# Altium integrated library Linear Technology Charge_Pump.IntLib: 599 symbols (part 14 of 29)
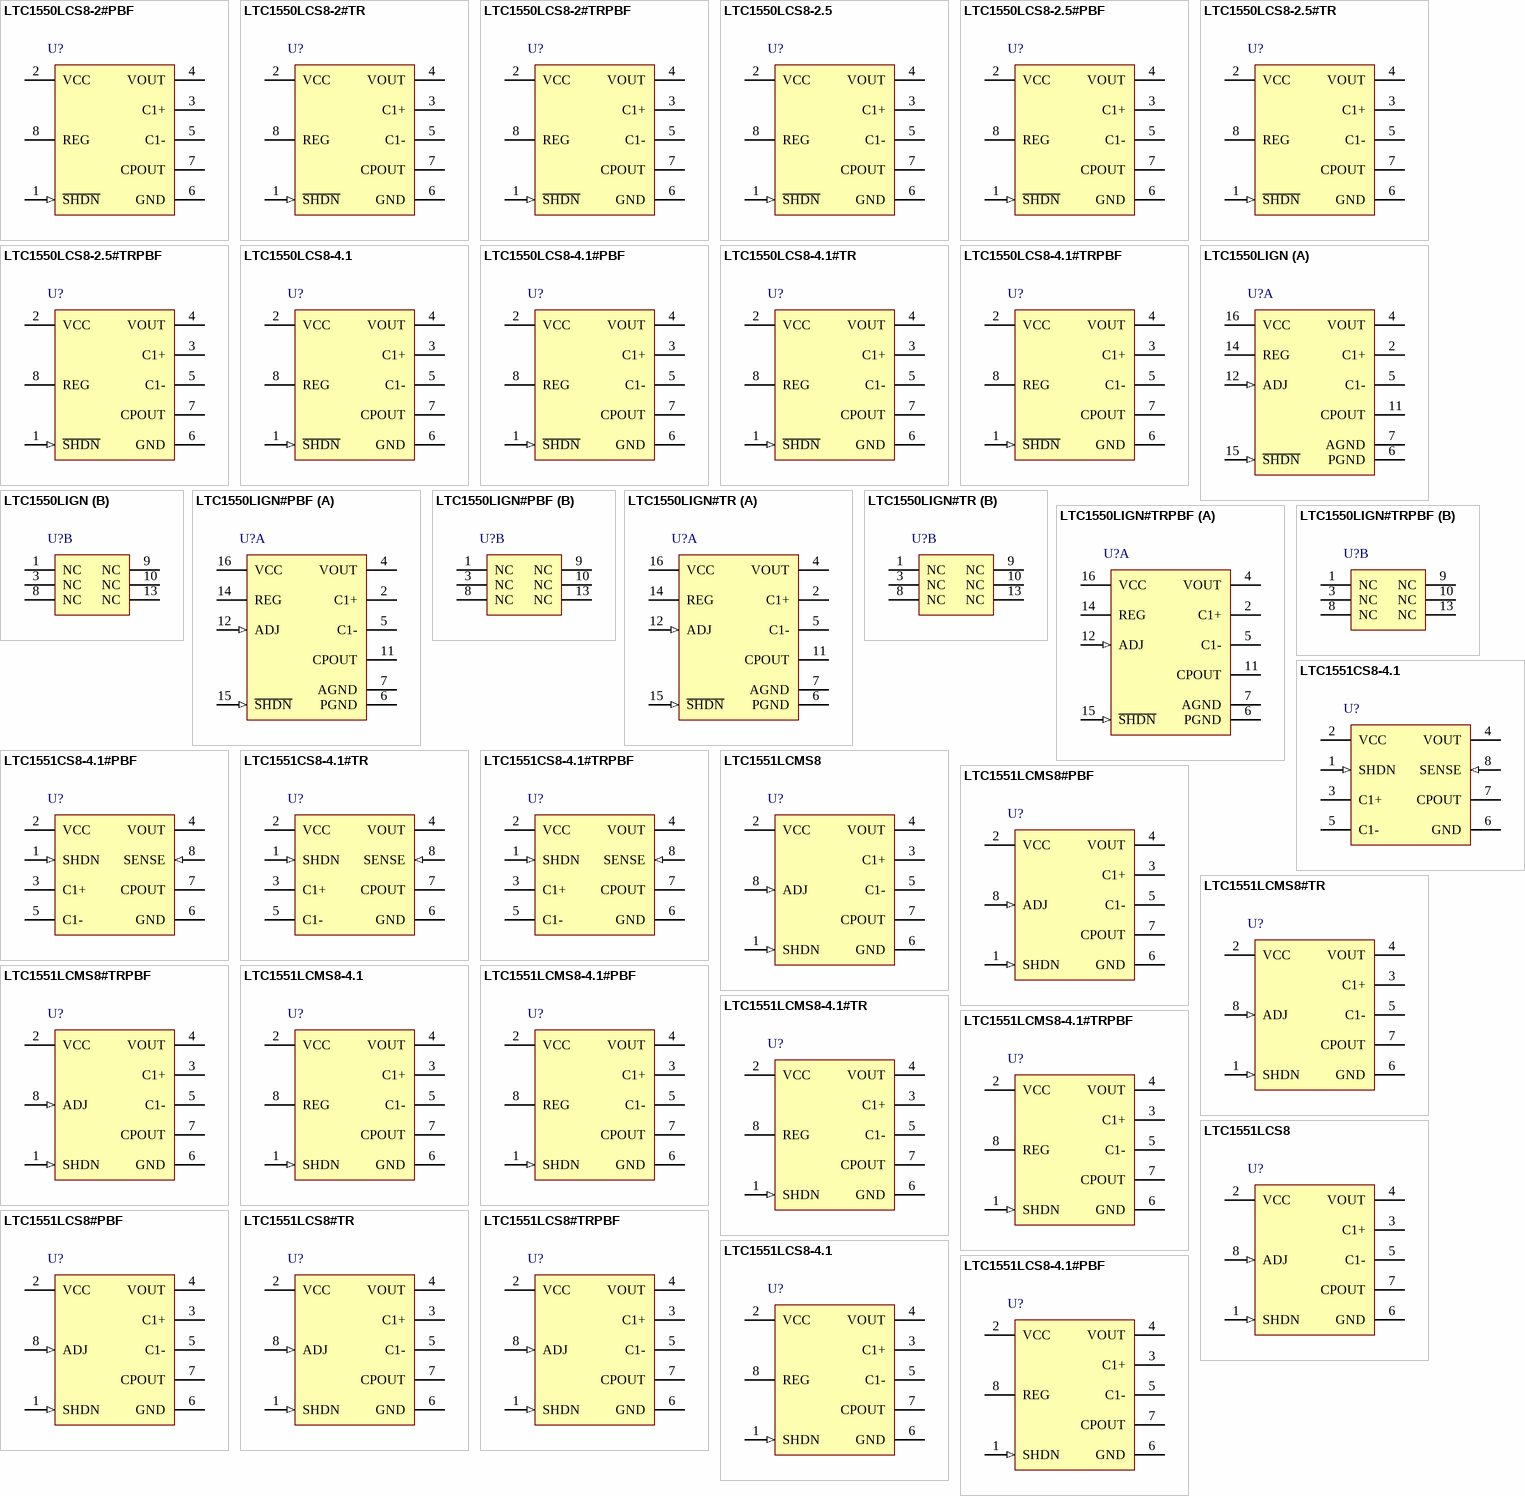
[diagram p29: symbols LTC1550LCS8-2#PBF to LTC1551LCS8-4.1#PBF]

## LTC1550LCS8-4.1#TR
designator U?
Low Noise, Switched Capacitor Regulated Voltage Inverter, 4.5 to 5.25 V Vin, -4.1 V Vout, 8-pin SOIC (S8-8), 0 to 70 degC, Tape and Reel; Manufacturer: Linear Technology; PartNumber: LTC1550LCS8-4.1#TR; Frequency(kHz): 900; Ishutdown(uA): 0.1; Isupply(mA): 3.65; Max Iout(mA): 20; Vin Max(V): 5.25; Vin Min(V): 4.5; Voutput: -4.1V; PackageVersion: Rev. G, 03/2012; PackageReference: S8-8; PackageDescription: 8-Pin Plastic Small Outline (Narrow .150 Inch), Body 4.9 x 3.9 mm, Pitch 1.27 mm; Supplier 1: Digi-Key; Supplier Part Number 1: LTC1550LCS8-4.1TR-ND; Packing: Tape and Reel; RoHS: FALSE; Mounting Technology: Surface Mount; ComponentLink1Description: Manufacturer URL; ComponentLink1URL: http://www.linear.com/; ComponentLink2Description: Datasheet; ComponentLink2URL: http://cds.linear.com/docs/en/datasheet/15501lf.pdf; ComponentLink3Description: Package Specification; ComponentLink3URL: http://cds.linear.com/docs/en/packaging/05081610_G_SO8.pdf
footprint LT-S8-8_N (SOIC, 8-Leads, Body 5x4mm, Pitch 1.27mm, IPC Medium Density)
footprint LT-S8-8_L (SOIC, 8-Leads, Body 5x4mm, Pitch 1.27mm, IPC High Density)
footprint LT-S8-8_M (SOIC, 8-Leads, Body 5x4mm, Pitch 1.27mm, IPC Low Density)
pins: 1 ~{SHDN} (in) "Shutdown (TTL Compatible). This pin is active low (S\H\D\N\) for the LTC1550L and active high (SHDN) for the LTC1551L. When this pin is at VCC (GND for LTC1551L), the LTC1550L operates normally. When S\H\D\N\ is pulled low (See Datasheet)", 2 VCC (power) "Power Supply. VCC requires an input voltage between 2.7V and 5.25V. Certain combinations of output voltage and output load current may place additional restrictions on the required input voltage. Consult the Electrical (See Datasheet)", 3 C1+ "C1 Positive Input. Connect a 0.1uF capacitor between C1+ and C1-.", 4 VOUT (power) "Negative Voltage Output. This pin must be bypassed with a 4.7uF or larger capacitor to ensure regulator loop stability. LTC recommends at least 10uFto achieve the specified output ripple. The output capacitor should be a (See Datasheet)", 5 C1- "C1 Negative Input. Connect a 0.1uF capacitor from C1+ to C1-.", 6 GND (power) "Ground. Connect to a low impedance ground. A ground plane will help minimize regulation errors.", 7 CPOUT "Negative Charge Pump Output. This pin requires a 0.1uF storage capacitor to ground. In order to achieve ripple on the output voltage of less than 1mV, the ground connection for the CPOUT capacitor must tie directly to the (See Datasheet)", 8 REG (oc) "This is an open-drain output that pulls low when the output voltage is within 5% of the set value. It will sink 4uA to ground with a 5V supply. The external circuitry must provide a pull-up or REG will not swing high. The (See Datasheet)"

## LTC1550LCS8-4.1#TRPBF
designator U?
Low Noise, Switched Capacitor Regulated Voltage Inverter, 4.5 to 5.25 V Vin, -4.1 V Vout, 8-pin SOIC (S8-8), 0 to 70 degC, Pb-Free, Tape and Reel; Manufacturer: Linear Technology; PartNumber: LTC1550LCS8-4.1#TRPBF; Frequency(kHz): 900; Ishutdown(uA): 0.1; Isupply(mA): 3.65; Max Iout(mA): 20; Vin Max(V): 5.25; Vin Min(V): 4.5; Voutput: -4.1V; PackageVersion: Rev. G, 03/2012; PackageReference: S8-8; PackageDescription: 8-Pin Plastic Small Outline (Narrow .150 Inch), Body 4.9 x 3.9 mm, Pitch 1.27 mm; Supplier 1: Digi-Key; Supplier Part Number 1: LTC1550LCS8-4.1#TRPBF-ND; Packing: Tape and Reel; RoHS: TRUE; Mounting Technology: Surface Mount; ComponentLink1Description: Manufacturer URL; ComponentLink1URL: http://www.linear.com/; ComponentLink2Description: Datasheet; ComponentLink2URL: http://cds.linear.com/docs/en/datasheet/15501lf.pdf; ComponentLink3Description: Package Specification; ComponentLink3URL: http://cds.linear.com/docs/en/packaging/05081610_G_SO8.pdf
footprint LT-S8-8_N (SOIC, 8-Leads, Body 5x4mm, Pitch 1.27mm, IPC Medium Density)
footprint LT-S8-8_L (SOIC, 8-Leads, Body 5x4mm, Pitch 1.27mm, IPC High Density)
footprint LT-S8-8_M (SOIC, 8-Leads, Body 5x4mm, Pitch 1.27mm, IPC Low Density)
pins: 1 ~{SHDN} (in) "Shutdown (TTL Compatible). This pin is active low (S\H\D\N\) for the LTC1550L and active high (SHDN) for the LTC1551L. When this pin is at VCC (GND for LTC1551L), the LTC1550L operates normally. When S\H\D\N\ is pulled low (See Datasheet)", 2 VCC (power) "Power Supply. VCC requires an input voltage between 2.7V and 5.25V. Certain combinations of output voltage and output load current may place additional restrictions on the required input voltage. Consult the Electrical (See Datasheet)", 3 C1+ "C1 Positive Input. Connect a 0.1uF capacitor between C1+ and C1-.", 4 VOUT (power) "Negative Voltage Output. This pin must be bypassed with a 4.7uF or larger capacitor to ensure regulator loop stability. LTC recommends at least 10uFto achieve the specified output ripple. The output capacitor should be a (See Datasheet)", 5 C1- "C1 Negative Input. Connect a 0.1uF capacitor from C1+ to C1-.", 6 GND (power) "Ground. Connect to a low impedance ground. A ground plane will help minimize regulation errors.", 7 CPOUT "Negative Charge Pump Output. This pin requires a 0.1uF storage capacitor to ground. In order to achieve ripple on the output voltage of less than 1mV, the ground connection for the CPOUT capacitor must tie directly to the (See Datasheet)", 8 REG (oc) "This is an open-drain output that pulls low when the output voltage is within 5% of the set value. It will sink 4uA to ground with a 5V supply. The external circuitry must provide a pull-up or REG will not swing high. The (See Datasheet)"

## LTC1550LIGN
designator U?
Low Noise, Switched Capacitor Regulated Voltage Inverter, 2.7 to 5.25 V Vin, Adjustable Vout, 16-pin SOP (GN-16), -40 to 85 degC; Manufacturer: Linear Technology; PartNumber: LTC1550LIGN; Frequency(kHz): 900; Ishutdown(uA): 0.1; Isupply(mA): 3.65; Max Iout(mA): 20; Vin Max(V): 5.25; Vin Min(V): 2.7; Voutput: Adj; PackageVersion: Rev. B, 03/2012; PackageReference: GN-16; PackageDescription: 16-Pin Plastic SSOP, Body 4.9 x 3.9 mm, Pitch 0.635 mm; Supplier 1: Digi-Key; Supplier Part Number 1: LTC1550LIGN-ND; Supplier 2: Newark; Supplier Part Number 2: 56M2008; RoHS: FALSE; Mounting Technology: Surface Mount; ComponentLink1Description: Manufacturer URL; ComponentLink1URL: http://www.linear.com/; ComponentLink2Description: Datasheet; ComponentLink2URL: http://cds.linear.com/docs/en/datasheet/15501lf.pdf; ComponentLink3Description: Package Specification; ComponentLink3URL: http://cds.linear.com/docs/en/packaging/05081641_B_GN16.pdf
footprint LT-GN-16_N (SOP, 16-Leads, Body 5x4mm, Pitch 0.635mm, IPC Medium Density)
footprint LT-GN-16_L (SOP, 16-Leads, Body 5x4mm, Pitch 0.635mm, IPC High Density)
footprint LT-GN-16_M (SOP, 16-Leads, Body 5x4mm, Pitch 0.635mm, IPC Low Density)
part A pins: 2 C1+ "C1 Positive Input. Connect a 0.1uF capacitor between C1+ and C1-.", 4 VOUT (power) "Negative Voltage Output. This pin must be bypassed with a 4.7uF or larger capacitor to ensure regulator loop stability. LTC recommends at least 10uF to achieve the specified output ripple. The output capacitor should be a (See Datasheet)", 5 C1- "C1 Negative Input. Connect a 0.1uF capacitor from C1+ to C1-.", 6 PGND (power) "Power Ground. Connect to a low impedance ground. PGND should be connected to the same potential as AGND.", 7 AGND (power) "Analog Ground. Connect to a low impedance ground. AGND should be connected to a ground plane to minimize regulation errors.", 11 CPOUT "Negative Charge Pump Output. This pin requires a 0.1uF storage capacitor to ground. In order to achieve ripple on the output voltage of less than 1mV, the ground connection for the CPOUT capacitor must tie directly to the (See Datasheet)", 12 ADJ (in) "This is the feedback point for the external resistor divider string. Connect a divider string from GND to VOUT with the divided tap connected to ADJ. Note that the resistor string needs to be connected “upside-down” f(See Datasheet)", 14 REG (oc) "This is an open-drain output that pulls low when the output voltage is within 5% of the set value. It will sink 4mA to ground with a 5V supply. The external circuitry must provide a pull-up or REG will not swing high. The (See Datasheet)", 15 ~{SHDN} (in) "Shutdown (TTL Compatible). This pin is active low (S\H\D\N\) for the LTC1550L and active high (SHDN) for the LTC1551L. When this pin is at VCC (GND for LTC1551L), the LTC1550L operates normally. When S\H\D\N\ is pulled low (See Datasheet)", 16 VCC (power) "Power Supply. VCC requires an input voltage between 2.7V and 5.25V. Certain combinations of output voltage and output load current may place additional restrictions on the required input voltage. Consult the Electrical (See Datasheet)"
part B pins: 1 NC "No Internal Connection.", 3 NC "No Internal Connection.", 8 NC "No Internal Connection.", 9 NC "No Internal Connection.", 10 NC "No Internal Connection.", 13 NC "No Internal Connection."

## LTC1550LIGN#PBF
designator U?
Low Noise, Switched Capacitor Regulated Voltage Inverter, 2.7 to 5.25 V Vin, Adjustable Vout, 16-pin SOP (GN-16), -40 to 85 degC, Pb-Free; Manufacturer: Linear Technology; PartNumber: LTC1550LIGN#PBF; Frequency(kHz): 900; Ishutdown(uA): 0.1; Isupply(mA): 3.65; Max Iout(mA): 20; Vin Max(V): 5.25; Vin Min(V): 2.7; Voutput: Adj; PackageVersion: Rev. B, 03/2012; PackageReference: GN-16; PackageDescription: 16-Pin Plastic SSOP, Body 4.9 x 3.9 mm, Pitch 0.635 mm; Supplier 1: Digi-Key; Supplier Part Number 1: LTC1550LIGN#PBF-ND; RoHS: TRUE; Mounting Technology: Surface Mount; ComponentLink1Description: Manufacturer URL; ComponentLink1URL: http://www.linear.com/; ComponentLink2Description: Datasheet; ComponentLink2URL: http://cds.linear.com/docs/en/datasheet/15501lf.pdf; ComponentLink3Description: Package Specification; ComponentLink3URL: http://cds.linear.com/docs/en/packaging/05081641_B_GN16.pdf
footprint LT-GN-16_N (SOP, 16-Leads, Body 5x4mm, Pitch 0.635mm, IPC Medium Density)
footprint LT-GN-16_L (SOP, 16-Leads, Body 5x4mm, Pitch 0.635mm, IPC High Density)
footprint LT-GN-16_M (SOP, 16-Leads, Body 5x4mm, Pitch 0.635mm, IPC Low Density)
part A pins: 2 C1+ "C1 Positive Input. Connect a 0.1uF capacitor between C1+ and C1-.", 4 VOUT (power) "Negative Voltage Output. This pin must be bypassed with a 4.7uF or larger capacitor to ensure regulator loop stability. LTC recommends at least 10uF to achieve the specified output ripple. The output capacitor should be a (See Datasheet)", 5 C1- "C1 Negative Input. Connect a 0.1uF capacitor from C1+ to C1-.", 6 PGND (power) "Power Ground. Connect to a low impedance ground. PGND should be connected to the same potential as AGND.", 7 AGND (power) "Analog Ground. Connect to a low impedance ground. AGND should be connected to a ground plane to minimize regulation errors.", 11 CPOUT "Negative Charge Pump Output. This pin requires a 0.1uF storage capacitor to ground. In order to achieve ripple on the output voltage of less than 1mV, the ground connection for the CPOUT capacitor must tie directly to the (See Datasheet)", 12 ADJ (in) "This is the feedback point for the external resistor divider string. Connect a divider string from GND to VOUT with the divided tap connected to ADJ. Note that the resistor string needs to be connected “upside-down” f(See Datasheet)", 14 REG (oc) "This is an open-drain output that pulls low when the output voltage is within 5% of the set value. It will sink 4mA to ground with a 5V supply. The external circuitry must provide a pull-up or REG will not swing high. The (See Datasheet)", 15 ~{SHDN} (in) "Shutdown (TTL Compatible). This pin is active low (S\H\D\N\) for the LTC1550L and active high (SHDN) for the LTC1551L. When this pin is at VCC (GND for LTC1551L), the LTC1550L operates normally. When S\H\D\N\ is pulled low (See Datasheet)", 16 VCC (power) "Power Supply. VCC requires an input voltage between 2.7V and 5.25V. Certain combinations of output voltage and output load current may place additional restrictions on the required input voltage. Consult the Electrical (See Datasheet)"
part B pins: 1 NC "No Internal Connection.", 3 NC "No Internal Connection.", 8 NC "No Internal Connection.", 9 NC "No Internal Connection.", 10 NC "No Internal Connection.", 13 NC "No Internal Connection."

## LTC1550LIGN#TR
designator U?
Low Noise, Switched Capacitor Regulated Voltage Inverter, 2.7 to 5.25 V Vin, Adjustable Vout, 16-pin SOP (GN-16), -40 to 85 degC, Tape and Reel; Manufacturer: Linear Technology; PartNumber: LTC1550LIGN#TR; Frequency(kHz): 900; Ishutdown(uA): 0.1; Isupply(mA): 3.65; Max Iout(mA): 20; Vin Max(V): 5.25; Vin Min(V): 2.7; Voutput: Adj; PackageVersion: Rev. B, 03/2012; PackageReference: GN-16; PackageDescription: 16-Pin Plastic SSOP, Body 4.9 x 3.9 mm, Pitch 0.635 mm; Supplier 1: Digi-Key; Supplier Part Number 1: LTC1550LIGN#TR-ND; Packing: Tape and Reel; RoHS: FALSE; Mounting Technology: Surface Mount; ComponentLink1Description: Manufacturer URL; ComponentLink1URL: http://www.linear.com/; ComponentLink2Description: Datasheet; ComponentLink2URL: http://cds.linear.com/docs/en/datasheet/15501lf.pdf; ComponentLink3Description: Package Specification; ComponentLink3URL: http://cds.linear.com/docs/en/packaging/05081641_B_GN16.pdf
footprint LT-GN-16_N (SOP, 16-Leads, Body 5x4mm, Pitch 0.635mm, IPC Medium Density)
footprint LT-GN-16_L (SOP, 16-Leads, Body 5x4mm, Pitch 0.635mm, IPC High Density)
footprint LT-GN-16_M (SOP, 16-Leads, Body 5x4mm, Pitch 0.635mm, IPC Low Density)
part A pins: 2 C1+ "C1 Positive Input. Connect a 0.1uF capacitor between C1+ and C1-.", 4 VOUT (power) "Negative Voltage Output. This pin must be bypassed with a 4.7uF or larger capacitor to ensure regulator loop stability. LTC recommends at least 10uF to achieve the specified output ripple. The output capacitor should be a (See Datasheet)", 5 C1- "C1 Negative Input. Connect a 0.1uF capacitor from C1+ to C1-.", 6 PGND (power) "Power Ground. Connect to a low impedance ground. PGND should be connected to the same potential as AGND.", 7 AGND (power) "Analog Ground. Connect to a low impedance ground. AGND should be connected to a ground plane to minimize regulation errors.", 11 CPOUT "Negative Charge Pump Output. This pin requires a 0.1uF storage capacitor to ground. In order to achieve ripple on the output voltage of less than 1mV, the ground connection for the CPOUT capacitor must tie directly to the (See Datasheet)", 12 ADJ (in) "This is the feedback point for the external resistor divider string. Connect a divider string from GND to VOUT with the divided tap connected to ADJ. Note that the resistor string needs to be connected “upside-down” f(See Datasheet)", 14 REG (oc) "This is an open-drain output that pulls low when the output voltage is within 5% of the set value. It will sink 4mA to ground with a 5V supply. The external circuitry must provide a pull-up or REG will not swing high. The (See Datasheet)", 15 ~{SHDN} (in) "Shutdown (TTL Compatible). This pin is active low (S\H\D\N\) for the LTC1550L and active high (SHDN) for the LTC1551L. When this pin is at VCC (GND for LTC1551L), the LTC1550L operates normally. When S\H\D\N\ is pulled low (See Datasheet)", 16 VCC (power) "Power Supply. VCC requires an input voltage between 2.7V and 5.25V. Certain combinations of output voltage and output load current may place additional restrictions on the required input voltage. Consult the Electrical (See Datasheet)"
part B pins: 1 NC "No Internal Connection.", 3 NC "No Internal Connection.", 8 NC "No Internal Connection.", 9 NC "No Internal Connection.", 10 NC "No Internal Connection.", 13 NC "No Internal Connection."

## LTC1550LIGN#TRPBF
designator U?
Low Noise, Switched Capacitor Regulated Voltage Inverter, 2.7 to 5.25 V Vin, Adjustable Vout, 16-pin SOP (GN-16), -40 to 85 degC, Pb-Free, Tape and Reel; Manufacturer: Linear Technology; PartNumber: LTC1550LIGN#TRPBF; Frequency(kHz): 900; Ishutdown(uA): 0.1; Isupply(mA): 3.65; Max Iout(mA): 20; Vin Max(V): 5.25; Vin Min(V): 2.7; Voutput: Adj; PackageVersion: Rev. B, 03/2012; PackageReference: GN-16; PackageDescription: 16-Pin Plastic SSOP, Body 4.9 x 3.9 mm, Pitch 0.635 mm; Supplier 1: Digi-Key; Supplier Part Number 1: LTC1550LIGN#TRPBF-ND; Packing: Tape and Reel; RoHS: TRUE; Mounting Technology: Surface Mount; ComponentLink1Description: Manufacturer URL; ComponentLink1URL: http://www.linear.com/; ComponentLink2Description: Datasheet; ComponentLink2URL: http://cds.linear.com/docs/en/datasheet/15501lf.pdf; ComponentLink3Description: Package Specification; ComponentLink3URL: http://cds.linear.com/docs/en/packaging/05081641_B_GN16.pdf
footprint LT-GN-16_N (SOP, 16-Leads, Body 5x4mm, Pitch 0.635mm, IPC Medium Density)
footprint LT-GN-16_L (SOP, 16-Leads, Body 5x4mm, Pitch 0.635mm, IPC High Density)
footprint LT-GN-16_M (SOP, 16-Leads, Body 5x4mm, Pitch 0.635mm, IPC Low Density)
part A pins: 2 C1+ "C1 Positive Input. Connect a 0.1uF capacitor between C1+ and C1-.", 4 VOUT (power) "Negative Voltage Output. This pin must be bypassed with a 4.7uF or larger capacitor to ensure regulator loop stability. LTC recommends at least 10uF to achieve the specified output ripple. The output capacitor should be a (See Datasheet)", 5 C1- "C1 Negative Input. Connect a 0.1uF capacitor from C1+ to C1-.", 6 PGND (power) "Power Ground. Connect to a low impedance ground. PGND should be connected to the same potential as AGND.", 7 AGND (power) "Analog Ground. Connect to a low impedance ground. AGND should be connected to a ground plane to minimize regulation errors.", 11 CPOUT "Negative Charge Pump Output. This pin requires a 0.1uF storage capacitor to ground. In order to achieve ripple on the output voltage of less than 1mV, the ground connection for the CPOUT capacitor must tie directly to the (See Datasheet)", 12 ADJ (in) "This is the feedback point for the external resistor divider string. Connect a divider string from GND to VOUT with the divided tap connected to ADJ. Note that the resistor string needs to be connected “upside-down” f(See Datasheet)", 14 REG (oc) "This is an open-drain output that pulls low when the output voltage is within 5% of the set value. It will sink 4mA to ground with a 5V supply. The external circuitry must provide a pull-up or REG will not swing high. The (See Datasheet)", 15 ~{SHDN} (in) "Shutdown (TTL Compatible). This pin is active low (S\H\D\N\) for the LTC1550L and active high (SHDN) for the LTC1551L. When this pin is at VCC (GND for LTC1551L), the LTC1550L operates normally. When S\H\D\N\ is pulled low (See Datasheet)", 16 VCC (power) "Power Supply. VCC requires an input voltage between 2.7V and 5.25V. Certain combinations of output voltage and output load current may place additional restrictions on the required input voltage. Consult the Electrical (See Datasheet)"
part B pins: 1 NC "No Internal Connection.", 3 NC "No Internal Connection.", 8 NC "No Internal Connection.", 9 NC "No Internal Connection.", 10 NC "No Internal Connection.", 13 NC "No Internal Connection."

## LTC1551CS8-4.1
designator U?
Low Noise, Switched Capacitor Regulated Voltage Inverter, 4.5 to 6.5 V Vin, -4.1 V Vout, 8-pin SOIC (S8-8), 0 to 70 degC; Manufacturer: Linear Technology; PartNumber: LTC1551CS8-4.1; Frequency(kHz): 900; Ishutdown(uA): 0.1; Isupply(mA): 4.25; Max Iout(mA): 20; Vin Max(V): 6.5; Vin Min(V): 4.5; Voutput: -4.1V; DatasheetVersion: Rev. A; PackageVersion: Rev. G, 03/2012; PackageReference: S8-8; PackageDescription: 8-Pin Plastic Small Outline (Narrow .150 Inch), Body 4.9 x 3.9 mm, Pitch 1.27 mm; Supplier 1: Digi-Key; Supplier Part Number 1: LTC1551CS8-4.1-ND; RoHS: FALSE; Mounting Technology: Surface Mount; ComponentLink1Description: Manufacturer URL; ComponentLink1URL: http://www.linear.com/; ComponentLink2Description: Datasheet; ComponentLink2URL: http://cds.linear.com/docs/en/datasheet/15501fa.pdf; ComponentLink3Description: Package Specification; ComponentLink3URL: http://cds.linear.com/docs/en/packaging/05081610_G_SO8.pdf
footprint LT-S8-8_N (SOIC, 8-Leads, Body 5x4mm, Pitch 1.27mm, IPC Medium Density)
footprint LT-S8-8_L (SOIC, 8-Leads, Body 5x4mm, Pitch 1.27mm, IPC High Density)
footprint LT-S8-8_M (SOIC, 8-Leads, Body 5x4mm, Pitch 1.27mm, IPC Low Density)
pins: 1 SHDN (in) "Shutdown (TTL Compatible). This pin is active low (S\H\D\N\) for the LTC1550 and active high (SHDN) for the LTC1551. When this pin is at VCC (GND for LTC1551), the LTC1550 operates normally. When S\H\D\N\ is pulled low (SHDN (See Datasheet)", 2 VCC (power) "Power Supply. VCC requires an input voltage between   4.5V and 6.5V for the fixed voltage LTC1550CS8-4.1/ LTC1551CS8-4.1. The adjustable voltage LTC1550CGN/LTC1550IGN operates with a VCC range of 2.7V to 6.5V.   Output (See Datasheet)", 3 C1+ "C1 Positive Input. Connect a 0.1uF capacitor between C1+ and C1-.", 4 VOUT (power) "Negative Voltage Output. This pin must be bypassed with a 4.7uF or larger capacitor to ensure regulator loop stability. LTC recommends at least 10uF to achieve the specified output ripple. The output capacitor should be a (See Datasheet)", 5 C1- "C1 Negative Input. Connect a 0.1uF capacitor from C1+ to C1-.", 6 GND (power) "Ground. Connect to a low impedance ground. A ground plane will help minimize regulation errors.", 7 CPOUT "Negative Charge Pump Output. This pin requires a 0.1uF storage capacitor to ground. In order to achieve ripple on the output voltage of less than 1mV, the ground connection for the CPOUT capacitor must tie directly to the (See Datasheet)", 8 SENSE (in) "Connect to VOUT. The LTC1550/LTC1551 internal regulator uses this pin to sense the output voltage. For optimum regulation, SENSE should be connected close to the output load"

## LTC1551CS8-4.1#PBF
designator U?
Low Noise, Switched Capacitor Regulated Voltage Inverter, 4.5 to 6.5 V Vin, -4.1 V Vout, 8-pin SOIC (S8-8), 0 to 70 degC, Pb-Free; Manufacturer: Linear Technology; PartNumber: LTC1551CS8-4.1#PBF; Frequency(kHz): 900; Ishutdown(uA): 0.1; Isupply(mA): 4.25; Max Iout(mA): 20; Vin Max(V): 6.5; Vin Min(V): 4.5; Voutput: -4.1V; DatasheetVersion: Rev. A; PackageVersion: Rev. G, 03/2012; PackageReference: S8-8; PackageDescription: 8-Pin Plastic Small Outline (Narrow .150 Inch), Body 4.9 x 3.9 mm, Pitch 1.27 mm; Supplier 1: Digi-Key; Supplier Part Number 1: LTC1551CS8-4.1#PBF-ND; Supplier 2: Newark; Supplier Part Number 2: 56M2013; RoHS: TRUE; Mounting Technology: Surface Mount; ComponentLink1Description: Manufacturer URL; ComponentLink1URL: http://www.linear.com/; ComponentLink2Description: Datasheet; ComponentLink2URL: http://cds.linear.com/docs/en/datasheet/15501fa.pdf; ComponentLink3Description: Package Specification; ComponentLink3URL: http://cds.linear.com/docs/en/packaging/05081610_G_SO8.pdf
footprint LT-S8-8_N (SOIC, 8-Leads, Body 5x4mm, Pitch 1.27mm, IPC Medium Density)
footprint LT-S8-8_L (SOIC, 8-Leads, Body 5x4mm, Pitch 1.27mm, IPC High Density)
footprint LT-S8-8_M (SOIC, 8-Leads, Body 5x4mm, Pitch 1.27mm, IPC Low Density)
pins: 1 SHDN (in) "Shutdown (TTL Compatible). This pin is active low (S\H\D\N\) for the LTC1550 and active high (SHDN) for the LTC1551. When this pin is at VCC (GND for LTC1551), the LTC1550 operates normally. When S\H\D\N\ is pulled low (SHDN (See Datasheet)", 2 VCC (power) "Power Supply. VCC requires an input voltage between   4.5V and 6.5V for the fixed voltage LTC1550CS8-4.1/ LTC1551CS8-4.1. The adjustable voltage LTC1550CGN/LTC1550IGN operates with a VCC range of 2.7V to 6.5V.   Output (See Datasheet)", 3 C1+ "C1 Positive Input. Connect a 0.1uF capacitor between C1+ and C1-.", 4 VOUT (power) "Negative Voltage Output. This pin must be bypassed with a 4.7uF or larger capacitor to ensure regulator loop stability. LTC recommends at least 10uF to achieve the specified output ripple. The output capacitor should be a (See Datasheet)", 5 C1- "C1 Negative Input. Connect a 0.1uF capacitor from C1+ to C1-.", 6 GND (power) "Ground. Connect to a low impedance ground. A ground plane will help minimize regulation errors.", 7 CPOUT "Negative Charge Pump Output. This pin requires a 0.1uF storage capacitor to ground. In order to achieve ripple on the output voltage of less than 1mV, the ground connection for the CPOUT capacitor must tie directly to the (See Datasheet)", 8 SENSE (in) "Connect to VOUT. The LTC1550/LTC1551 internal regulator uses this pin to sense the output voltage. For optimum regulation, SENSE should be connected close to the output load"

## LTC1551CS8-4.1#TR
designator U?
Low Noise, Switched Capacitor Regulated Voltage Inverter, 4.5 to 6.5 V Vin, -4.1 V Vout, 8-pin SOIC (S8-8), 0 to 70 degC, Tape and Reel; Manufacturer: Linear Technology; PartNumber: LTC1551CS8-4.1#TR; Frequency(kHz): 900; Ishutdown(uA): 0.1; Isupply(mA): 4.25; Max Iout(mA): 20; Vin Max(V): 6.5; Vin Min(V): 4.5; Voutput: -4.1V; DatasheetVersion: Rev. A; PackageVersion: Rev. G, 03/2012; PackageReference: S8-8; PackageDescription: 8-Pin Plastic Small Outline (Narrow .150 Inch), Body 4.9 x 3.9 mm, Pitch 1.27 mm; Supplier 1: Digi-Key; Supplier Part Number 1: LTC1551CS8-4.1#TR-ND; Packing: Tape and Reel; RoHS: FALSE; Mounting Technology: Surface Mount; ComponentLink1Description: Manufacturer URL; ComponentLink1URL: http://www.linear.com/; ComponentLink2Description: Datasheet; ComponentLink2URL: http://cds.linear.com/docs/en/datasheet/15501fa.pdf; ComponentLink3Description: Package Specification; ComponentLink3URL: http://cds.linear.com/docs/en/packaging/05081610_G_SO8.pdf
footprint LT-S8-8_N (SOIC, 8-Leads, Body 5x4mm, Pitch 1.27mm, IPC Medium Density)
footprint LT-S8-8_L (SOIC, 8-Leads, Body 5x4mm, Pitch 1.27mm, IPC High Density)
footprint LT-S8-8_M (SOIC, 8-Leads, Body 5x4mm, Pitch 1.27mm, IPC Low Density)
pins: 1 SHDN (in) "Shutdown (TTL Compatible). This pin is active low (S\H\D\N\) for the LTC1550 and active high (SHDN) for the LTC1551. When this pin is at VCC (GND for LTC1551), the LTC1550 operates normally. When S\H\D\N\ is pulled low (SHDN (See Datasheet)", 2 VCC (power) "Power Supply. VCC requires an input voltage between   4.5V and 6.5V for the fixed voltage LTC1550CS8-4.1/ LTC1551CS8-4.1. The adjustable voltage LTC1550CGN/LTC1550IGN operates with a VCC range of 2.7V to 6.5V.   Output (See Datasheet)", 3 C1+ "C1 Positive Input. Connect a 0.1uF capacitor between C1+ and C1-.", 4 VOUT (power) "Negative Voltage Output. This pin must be bypassed with a 4.7uF or larger capacitor to ensure regulator loop stability. LTC recommends at least 10uF to achieve the specified output ripple. The output capacitor should be a (See Datasheet)", 5 C1- "C1 Negative Input. Connect a 0.1uF capacitor from C1+ to C1-.", 6 GND (power) "Ground. Connect to a low impedance ground. A ground plane will help minimize regulation errors.", 7 CPOUT "Negative Charge Pump Output. This pin requires a 0.1uF storage capacitor to ground. In order to achieve ripple on the output voltage of less than 1mV, the ground connection for the CPOUT capacitor must tie directly to the (See Datasheet)", 8 SENSE (in) "Connect to VOUT. The LTC1550/LTC1551 internal regulator uses this pin to sense the output voltage. For optimum regulation, SENSE should be connected close to the output load"

## LTC1551CS8-4.1#TRPBF
designator U?
Low Noise, Switched Capacitor Regulated Voltage Inverter, 4.5 to 6.5 V Vin, -4.1 V Vout, 8-pin SOIC (S8-8), 0 to 70 degC, Pb-Free, Tape and Reel; Manufacturer: Linear Technology; PartNumber: LTC1551CS8-4.1#TRPBF; Frequency(kHz): 900; Ishutdown(uA): 0.1; Isupply(mA): 4.25; Max Iout(mA): 20; Vin Max(V): 6.5; Vin Min(V): 4.5; Voutput: -4.1V; DatasheetVersion: Rev. A; PackageVersion: Rev. G, 03/2012; PackageReference: S8-8; PackageDescription: 8-Pin Plastic Small Outline (Narrow .150 Inch), Body 4.9 x 3.9 mm, Pitch 1.27 mm; Supplier 1: Digi-Key; Supplier Part Number 1: LTC1551CS8-4.1#TRPBF-ND; Packing: Tape and Reel; RoHS: TRUE; Mounting Technology: Surface Mount; ComponentLink1Description: Manufacturer URL; ComponentLink1URL: http://www.linear.com/; ComponentLink2Description: Datasheet; ComponentLink2URL: http://cds.linear.com/docs/en/datasheet/15501fa.pdf; ComponentLink3Description: Package Specification; ComponentLink3URL: http://cds.linear.com/docs/en/packaging/05081610_G_SO8.pdf
footprint LT-S8-8_N (SOIC, 8-Leads, Body 5x4mm, Pitch 1.27mm, IPC Medium Density)
footprint LT-S8-8_L (SOIC, 8-Leads, Body 5x4mm, Pitch 1.27mm, IPC High Density)
footprint LT-S8-8_M (SOIC, 8-Leads, Body 5x4mm, Pitch 1.27mm, IPC Low Density)
pins: 1 SHDN (in) "Shutdown (TTL Compatible). This pin is active low (S\H\D\N\) for the LTC1550 and active high (SHDN) for the LTC1551. When this pin is at VCC (GND for LTC1551), the LTC1550 operates normally. When S\H\D\N\ is pulled low (SHDN (See Datasheet)", 2 VCC (power) "Power Supply. VCC requires an input voltage between   4.5V and 6.5V for the fixed voltage LTC1550CS8-4.1/ LTC1551CS8-4.1. The adjustable voltage LTC1550CGN/LTC1550IGN operates with a VCC range of 2.7V to 6.5V.   Output (See Datasheet)", 3 C1+ "C1 Positive Input. Connect a 0.1uF capacitor between C1+ and C1-.", 4 VOUT (power) "Negative Voltage Output. This pin must be bypassed with a 4.7uF or larger capacitor to ensure regulator loop stability. LTC recommends at least 10uF to achieve the specified output ripple. The output capacitor should be a (See Datasheet)", 5 C1- "C1 Negative Input. Connect a 0.1uF capacitor from C1+ to C1-.", 6 GND (power) "Ground. Connect to a low impedance ground. A ground plane will help minimize regulation errors.", 7 CPOUT "Negative Charge Pump Output. This pin requires a 0.1uF storage capacitor to ground. In order to achieve ripple on the output voltage of less than 1mV, the ground connection for the CPOUT capacitor must tie directly to the (See Datasheet)", 8 SENSE (in) "Connect to VOUT. The LTC1550/LTC1551 internal regulator uses this pin to sense the output voltage. For optimum regulation, SENSE should be connected close to the output load"

## LTC1551LCMS8
designator U?
Low Noise, Switched Capacitor Regulated Voltage Inverter, 2.7 to 5.25 V Vin, Adjustable Vout, 8-pin SOP (MS8-8), 0 to 70 degC; Manufacturer: Linear Technology; PartNumber: LTC1551LCMS8; Frequency(kHz): 900; Ishutdown(uA): 0.1; Isupply(mA): 3.65; Max Iout(mA): 20; Vin Max(V): 5.25; Vin Min(V): 2.7; Voutput: Adj; PackageVersion: Rev. G, 03/2012; PackageReference: MS8-8; PackageDescription: 8-Pin Plastic MSOP, Body 3 x 3 mm, Pitch 0.65 mm; Supplier 1: Digi-Key; Supplier Part Number 1: LTC1551LCMS8-ND; RoHS: FALSE; Mounting Technology: Surface Mount; ComponentLink1Description: Manufacturer URL; ComponentLink1URL: http://www.linear.com/; ComponentLink2Description: Datasheet; ComponentLink2URL: http://cds.linear.com/docs/en/datasheet/15501lf.pdf; ComponentLink3Description: Package Specification; ComponentLink3URL: http://cds.linear.com/docs/en/packaging/05081660_G_MS8.pdf
footprint LT-MS8-8_N (SOP, 8-Leads, Body 3.1x3.1mm, Pitch 0.65mm, IPC Medium Density)
footprint LT-MS8-8_L (SOP, 8-Leads, Body 3.1x3.1mm, Pitch 0.65mm, IPC High Density)
footprint LT-MS8-8_M (SOP, 8-Leads, Body 3.1x3.1mm, Pitch 0.65mm, IPC Low Density)
pins: 1 SHDN (in) "Shutdown (TTL Compatible). This pin is active low (S\H\D\N\) for the LTC1550L and active high (SHDN) for the LTC1551L. When this pin is at VCC (GND for LTC1551L), the LTC1550L operates normally. When S\H\D\N\ is pulled low (See Datasheet)", 2 VCC (power) "Power Supply. VCC requires an input voltage between 2.7V and 5.25V. Certain combinations of output voltage and output load current may place additional restrictions on the required input voltage. Consult the Electrical (See Datasheet)", 3 C1+ "C1 Positive Input. Connect a 0.1uF capacitor between C1+ and C1-.", 4 VOUT (power) "Negative Voltage Output. This pin must be bypassed with a 4.7uF or larger capacitor to ensure regulator loop stability. LTC recommends at least 10uFto achieve the specified output ripple. The output capacitor should be a (See Datasheet)", 5 C1- "C1 Negative Input. Connect a 0.1uF capacitor from C1+ to C1-.", 6 GND (power) "Ground. Connect to a low impedance ground. A ground plane will help minimize regulation errors.", 7 CPOUT "Negative Charge Pump Output. This pin requires a 0.1uF storage capacitor to ground. In order to achieve ripple on the output voltage of less than 1mV, the ground connection for the CPOUT capacitor must tie directly to the (See Datasheet)", 8 ADJ (in) "This is the feedback point for the external resistor divider string. Connect a divider string from GND to VOUT with the divided tap connected to ADJ. Note that the resistor string needs to be connected “upside-down” f(See Datasheet)"

## LTC1551LCMS8#PBF
designator U?
Low Noise, Switched Capacitor Regulated Voltage Inverter, 2.7 to 5.25 V Vin, Adjustable Vout, 8-pin SOP (MS8-8), 0 to 70 degC, Pb-Free; Manufacturer: Linear Technology; PartNumber: LTC1551LCMS8#PBF; Frequency(kHz): 900; Ishutdown(uA): 0.1; Isupply(mA): 3.65; Max Iout(mA): 20; Vin Max(V): 5.25; Vin Min(V): 2.7; Voutput: Adj; PackageVersion: Rev. G, 03/2012; PackageReference: MS8-8; PackageDescription: 8-Pin Plastic MSOP, Body 3 x 3 mm, Pitch 0.65 mm; Supplier 1: Digi-Key; Supplier Part Number 1: LTC1551LCMS8#PBF-ND; RoHS: TRUE; Mounting Technology: Surface Mount; ComponentLink1Description: Manufacturer URL; ComponentLink1URL: http://www.linear.com/; ComponentLink2Description: Datasheet; ComponentLink2URL: http://cds.linear.com/docs/en/datasheet/15501lf.pdf; ComponentLink3Description: Package Specification; ComponentLink3URL: http://cds.linear.com/docs/en/packaging/05081660_G_MS8.pdf
footprint LT-MS8-8_N (SOP, 8-Leads, Body 3.1x3.1mm, Pitch 0.65mm, IPC Medium Density)
footprint LT-MS8-8_L (SOP, 8-Leads, Body 3.1x3.1mm, Pitch 0.65mm, IPC High Density)
footprint LT-MS8-8_M (SOP, 8-Leads, Body 3.1x3.1mm, Pitch 0.65mm, IPC Low Density)
pins: 1 SHDN (in) "Shutdown (TTL Compatible). This pin is active low (S\H\D\N\) for the LTC1550L and active high (SHDN) for the LTC1551L. When this pin is at VCC (GND for LTC1551L), the LTC1550L operates normally. When S\H\D\N\ is pulled low (See Datasheet)", 2 VCC (power) "Power Supply. VCC requires an input voltage between 2.7V and 5.25V. Certain combinations of output voltage and output load current may place additional restrictions on the required input voltage. Consult the Electrical (See Datasheet)", 3 C1+ "C1 Positive Input. Connect a 0.1uF capacitor between C1+ and C1-.", 4 VOUT (power) "Negative Voltage Output. This pin must be bypassed with a 4.7uF or larger capacitor to ensure regulator loop stability. LTC recommends at least 10uFto achieve the specified output ripple. The output capacitor should be a (See Datasheet)", 5 C1- "C1 Negative Input. Connect a 0.1uF capacitor from C1+ to C1-.", 6 GND (power) "Ground. Connect to a low impedance ground. A ground plane will help minimize regulation errors.", 7 CPOUT "Negative Charge Pump Output. This pin requires a 0.1uF storage capacitor to ground. In order to achieve ripple on the output voltage of less than 1mV, the ground connection for the CPOUT capacitor must tie directly to the (See Datasheet)", 8 ADJ (in) "This is the feedback point for the external resistor divider string. Connect a divider string from GND to VOUT with the divided tap connected to ADJ. Note that the resistor string needs to be connected “upside-down” f(See Datasheet)"

## LTC1551LCMS8#TR
designator U?
Low Noise, Switched Capacitor Regulated Voltage Inverter, 2.7 to 5.25 V Vin, Adjustable Vout, 8-pin SOP (MS8-8), 0 to 70 degC, Tape and Reel; Manufacturer: Linear Technology; PartNumber: LTC1551LCMS8#TR; Frequency(kHz): 900; Ishutdown(uA): 0.1; Isupply(mA): 3.65; Max Iout(mA): 20; Vin Max(V): 5.25; Vin Min(V): 2.7; Voutput: Adj; PackageVersion: Rev. G, 03/2012; PackageReference: MS8-8; PackageDescription: 8-Pin Plastic MSOP, Body 3 x 3 mm, Pitch 0.65 mm; Supplier 1: Digi-Key; Supplier Part Number 1: LTC1551LCMS8#TR-ND; Packing: Tape and Reel; RoHS: FALSE; Mounting Technology: Surface Mount; ComponentLink1Description: Manufacturer URL; ComponentLink1URL: http://www.linear.com/; ComponentLink2Description: Datasheet; ComponentLink2URL: http://cds.linear.com/docs/en/datasheet/15501lf.pdf; ComponentLink3Description: Package Specification; ComponentLink3URL: http://cds.linear.com/docs/en/packaging/05081660_G_MS8.pdf
footprint LT-MS8-8_N (SOP, 8-Leads, Body 3.1x3.1mm, Pitch 0.65mm, IPC Medium Density)
footprint LT-MS8-8_L (SOP, 8-Leads, Body 3.1x3.1mm, Pitch 0.65mm, IPC High Density)
footprint LT-MS8-8_M (SOP, 8-Leads, Body 3.1x3.1mm, Pitch 0.65mm, IPC Low Density)
pins: 1 SHDN (in) "Shutdown (TTL Compatible). This pin is active low (S\H\D\N\) for the LTC1550L and active high (SHDN) for the LTC1551L. When this pin is at VCC (GND for LTC1551L), the LTC1550L operates normally. When S\H\D\N\ is pulled low (See Datasheet)", 2 VCC (power) "Power Supply. VCC requires an input voltage between 2.7V and 5.25V. Certain combinations of output voltage and output load current may place additional restrictions on the required input voltage. Consult the Electrical (See Datasheet)", 3 C1+ "C1 Positive Input. Connect a 0.1uF capacitor between C1+ and C1-.", 4 VOUT (power) "Negative Voltage Output. This pin must be bypassed with a 4.7uF or larger capacitor to ensure regulator loop stability. LTC recommends at least 10uFto achieve the specified output ripple. The output capacitor should be a (See Datasheet)", 5 C1- "C1 Negative Input. Connect a 0.1uF capacitor from C1+ to C1-.", 6 GND (power) "Ground. Connect to a low impedance ground. A ground plane will help minimize regulation errors.", 7 CPOUT "Negative Charge Pump Output. This pin requires a 0.1uF storage capacitor to ground. In order to achieve ripple on the output voltage of less than 1mV, the ground connection for the CPOUT capacitor must tie directly to the (See Datasheet)", 8 ADJ (in) "This is the feedback point for the external resistor divider string. Connect a divider string from GND to VOUT with the divided tap connected to ADJ. Note that the resistor string needs to be connected “upside-down” f(See Datasheet)"

## LTC1551LCMS8#TRPBF
designator U?
Low Noise, Switched Capacitor Regulated Voltage Inverter, 2.7 to 5.25 V Vin, Adjustable Vout, 8-pin SOP (MS8-8), 0 to 70 degC, Pb-Free, Tape and Reel; Manufacturer: Linear Technology; PartNumber: LTC1551LCMS8#TRPBF; Frequency(kHz): 900; Ishutdown(uA): 0.1; Isupply(mA): 3.65; Max Iout(mA): 20; Vin Max(V): 5.25; Vin Min(V): 2.7; Voutput: Adj; PackageVersion: Rev. G, 03/2012; PackageReference: MS8-8; PackageDescription: 8-Pin Plastic MSOP, Body 3 x 3 mm, Pitch 0.65 mm; Supplier 1: Digi-Key; Supplier Part Number 1: LTC1551LCMS8#TRPBF-ND; Packing: Tape and Reel; RoHS: TRUE; Mounting Technology: Surface Mount; ComponentLink1Description: Manufacturer URL; ComponentLink1URL: http://www.linear.com/; ComponentLink2Description: Datasheet; ComponentLink2URL: http://cds.linear.com/docs/en/datasheet/15501lf.pdf; ComponentLink3Description: Package Specification; ComponentLink3URL: http://cds.linear.com/docs/en/packaging/05081660_G_MS8.pdf
footprint LT-MS8-8_N (SOP, 8-Leads, Body 3.1x3.1mm, Pitch 0.65mm, IPC Medium Density)
footprint LT-MS8-8_L (SOP, 8-Leads, Body 3.1x3.1mm, Pitch 0.65mm, IPC High Density)
footprint LT-MS8-8_M (SOP, 8-Leads, Body 3.1x3.1mm, Pitch 0.65mm, IPC Low Density)
pins: 1 SHDN (in) "Shutdown (TTL Compatible). This pin is active low (S\H\D\N\) for the LTC1550L and active high (SHDN) for the LTC1551L. When this pin is at VCC (GND for LTC1551L), the LTC1550L operates normally. When S\H\D\N\ is pulled low (See Datasheet)", 2 VCC (power) "Power Supply. VCC requires an input voltage between 2.7V and 5.25V. Certain combinations of output voltage and output load current may place additional restrictions on the required input voltage. Consult the Electrical (See Datasheet)", 3 C1+ "C1 Positive Input. Connect a 0.1uF capacitor between C1+ and C1-.", 4 VOUT (power) "Negative Voltage Output. This pin must be bypassed with a 4.7uF or larger capacitor to ensure regulator loop stability. LTC recommends at least 10uFto achieve the specified output ripple. The output capacitor should be a (See Datasheet)", 5 C1- "C1 Negative Input. Connect a 0.1uF capacitor from C1+ to C1-.", 6 GND (power) "Ground. Connect to a low impedance ground. A ground plane will help minimize regulation errors.", 7 CPOUT "Negative Charge Pump Output. This pin requires a 0.1uF storage capacitor to ground. In order to achieve ripple on the output voltage of less than 1mV, the ground connection for the CPOUT capacitor must tie directly to the (See Datasheet)", 8 ADJ (in) "This is the feedback point for the external resistor divider string. Connect a divider string from GND to VOUT with the divided tap connected to ADJ. Note that the resistor string needs to be connected “upside-down” f(See Datasheet)"

## LTC1551LCMS8-4.1
designator U?
Low Noise, Switched Capacitor Regulated Voltage Inverter, 4.5 to 5.25 V Vin, -4.1 V Vout, 8-pin SOP (MS8-8), 0 to 70 degC; Manufacturer: Linear Technology; PartNumber: LTC1551LCMS8-4.1; Frequency(kHz): 900; Ishutdown(uA): 0.1; Isupply(mA): 3.65; Max Iout(mA): 20; Vin Max(V): 5.25; Vin Min(V): 4.5; Voutput: -4.1V; PackageVersion: Rev. G, 03/2012; PackageReference: MS8-8; PackageDescription: 8-Pin Plastic MSOP, Body 3 x 3 mm, Pitch 0.65 mm; Supplier 1: Digi-Key; Supplier Part Number 1: LTC1551LCMS8-4.1-ND; RoHS: FALSE; Mounting Technology: Surface Mount; ComponentLink1Description: Manufacturer URL; ComponentLink1URL: http://www.linear.com/; ComponentLink2Description: Datasheet; ComponentLink2URL: http://cds.linear.com/docs/en/datasheet/15501lf.pdf; ComponentLink3Description: Package Specification; ComponentLink3URL: http://cds.linear.com/docs/en/packaging/05081660_G_MS8.pdf
footprint LT-MS8-8_N (SOP, 8-Leads, Body 3.1x3.1mm, Pitch 0.65mm, IPC Medium Density)
footprint LT-MS8-8_L (SOP, 8-Leads, Body 3.1x3.1mm, Pitch 0.65mm, IPC High Density)
footprint LT-MS8-8_M (SOP, 8-Leads, Body 3.1x3.1mm, Pitch 0.65mm, IPC Low Density)
pins: 1 SHDN (in) "Shutdown (TTL Compatible). This pin is active low (S\H\D\N\) for the LTC1550L and active high (SHDN) for the LTC1551L. When this pin is at VCC (GND for LTC1551L), the LTC1550L operates normally. When S\H\D\N\ is pulled low (See Datasheet)", 2 VCC (power) "Power Supply. VCC requires an input voltage between 2.7V and 5.25V. Certain combinations of output voltage and output load current may place additional restrictions on the required input voltage. Consult the Electrical (See Datasheet)", 3 C1+ "C1 Positive Input. Connect a 0.1uF capacitor between C1+ and C1-.", 4 VOUT (power) "Negative Voltage Output. This pin must be bypassed with a 4.7uF or larger capacitor to ensure regulator loop stability. LTC recommends at least 10uFto achieve the specified output ripple. The output capacitor should be a (See Datasheet)", 5 C1- "C1 Negative Input. Connect a 0.1uF capacitor from C1+ to C1-.", 6 GND (power) "Ground. Connect to a low impedance ground. A ground plane will help minimize regulation errors.", 7 CPOUT "Negative Charge Pump Output. This pin requires a 0.1uF storage capacitor to ground. In order to achieve ripple on the output voltage of less than 1mV, the ground connection for the CPOUT capacitor must tie directly to the (See Datasheet)", 8 REG (oc) "This is an open-drain output that pulls low when the output voltage is within 5% of the set value. It will sink 4mA to ground with a 5V supply. The external circuitry must provide a pull-up or REG will not swing high. The (See Datasheet)"

## LTC1551LCMS8-4.1#PBF
designator U?
Low Noise, Switched Capacitor Regulated Voltage Inverter, 4.5 to 5.25 V Vin, -4.1 V Vout, 8-pin SOP (MS8-8), 0 to 70 degC, Pb-Free; Manufacturer: Linear Technology; PartNumber: LTC1551LCMS8-4.1#PBF; Frequency(kHz): 900; Ishutdown(uA): 0.1; Isupply(mA): 3.65; Max Iout(mA): 20; Vin Max(V): 5.25; Vin Min(V): 4.5; Voutput: -4.1V; PackageVersion: Rev. G, 03/2012; PackageReference: MS8-8; PackageDescription: 8-Pin Plastic MSOP, Body 3 x 3 mm, Pitch 0.65 mm; Supplier 1: Digi-Key; Supplier Part Number 1: LTC1551LCMS8-4.1#PBF-ND; Supplier 2: Newark; Supplier Part Number 2: 56M2018; RoHS: TRUE; Mounting Technology: Surface Mount; ComponentLink1Description: Manufacturer URL; ComponentLink1URL: http://www.linear.com/; ComponentLink2Description: Datasheet; ComponentLink2URL: http://cds.linear.com/docs/en/datasheet/15501lf.pdf; ComponentLink3Description: Package Specification; ComponentLink3URL: http://cds.linear.com/docs/en/packaging/05081660_G_MS8.pdf
footprint LT-MS8-8_N (SOP, 8-Leads, Body 3.1x3.1mm, Pitch 0.65mm, IPC Medium Density)
footprint LT-MS8-8_L (SOP, 8-Leads, Body 3.1x3.1mm, Pitch 0.65mm, IPC High Density)
footprint LT-MS8-8_M (SOP, 8-Leads, Body 3.1x3.1mm, Pitch 0.65mm, IPC Low Density)
pins: 1 SHDN (in) "Shutdown (TTL Compatible). This pin is active low (S\H\D\N\) for the LTC1550L and active high (SHDN) for the LTC1551L. When this pin is at VCC (GND for LTC1551L), the LTC1550L operates normally. When S\H\D\N\ is pulled low (See Datasheet)", 2 VCC (power) "Power Supply. VCC requires an input voltage between 2.7V and 5.25V. Certain combinations of output voltage and output load current may place additional restrictions on the required input voltage. Consult the Electrical (See Datasheet)", 3 C1+ "C1 Positive Input. Connect a 0.1uF capacitor between C1+ and C1-.", 4 VOUT (power) "Negative Voltage Output. This pin must be bypassed with a 4.7uF or larger capacitor to ensure regulator loop stability. LTC recommends at least 10uFto achieve the specified output ripple. The output capacitor should be a (See Datasheet)", 5 C1- "C1 Negative Input. Connect a 0.1uF capacitor from C1+ to C1-.", 6 GND (power) "Ground. Connect to a low impedance ground. A ground plane will help minimize regulation errors.", 7 CPOUT "Negative Charge Pump Output. This pin requires a 0.1uF storage capacitor to ground. In order to achieve ripple on the output voltage of less than 1mV, the ground connection for the CPOUT capacitor must tie directly to the (See Datasheet)", 8 REG (oc) "This is an open-drain output that pulls low when the output voltage is within 5% of the set value. It will sink 4mA to ground with a 5V supply. The external circuitry must provide a pull-up or REG will not swing high. The (See Datasheet)"

## LTC1551LCMS8-4.1#TR
designator U?
Low Noise, Switched Capacitor Regulated Voltage Inverter, 4.5 to 5.25 V Vin, -4.1 V Vout, 8-pin SOP (MS8-8), 0 to 70 degC, Tape and Reel; Manufacturer: Linear Technology; PartNumber: LTC1551LCMS8-4.1#TR; Frequency(kHz): 900; Ishutdown(uA): 0.1; Isupply(mA): 3.65; Max Iout(mA): 20; Vin Max(V): 5.25; Vin Min(V): 4.5; Voutput: -4.1V; PackageVersion: Rev. G, 03/2012; PackageReference: MS8-8; PackageDescription: 8-Pin Plastic MSOP, Body 3 x 3 mm, Pitch 0.65 mm; Supplier 1: Digi-Key; Supplier Part Number 1: LTC1551LCMS84.1TR-ND; Packing: Tape and Reel; RoHS: FALSE; Mounting Technology: Surface Mount; ComponentLink1Description: Manufacturer URL; ComponentLink1URL: http://www.linear.com/; ComponentLink2Description: Datasheet; ComponentLink2URL: http://cds.linear.com/docs/en/datasheet/15501lf.pdf; ComponentLink3Description: Package Specification; ComponentLink3URL: http://cds.linear.com/docs/en/packaging/05081660_G_MS8.pdf
footprint LT-MS8-8_N (SOP, 8-Leads, Body 3.1x3.1mm, Pitch 0.65mm, IPC Medium Density)
footprint LT-MS8-8_L (SOP, 8-Leads, Body 3.1x3.1mm, Pitch 0.65mm, IPC High Density)
footprint LT-MS8-8_M (SOP, 8-Leads, Body 3.1x3.1mm, Pitch 0.65mm, IPC Low Density)
pins: 1 SHDN (in) "Shutdown (TTL Compatible). This pin is active low (S\H\D\N\) for the LTC1550L and active high (SHDN) for the LTC1551L. When this pin is at VCC (GND for LTC1551L), the LTC1550L operates normally. When S\H\D\N\ is pulled low (See Datasheet)", 2 VCC (power) "Power Supply. VCC requires an input voltage between 2.7V and 5.25V. Certain combinations of output voltage and output load current may place additional restrictions on the required input voltage. Consult the Electrical (See Datasheet)", 3 C1+ "C1 Positive Input. Connect a 0.1uF capacitor between C1+ and C1-.", 4 VOUT (power) "Negative Voltage Output. This pin must be bypassed with a 4.7uF or larger capacitor to ensure regulator loop stability. LTC recommends at least 10uFto achieve the specified output ripple. The output capacitor should be a (See Datasheet)", 5 C1- "C1 Negative Input. Connect a 0.1uF capacitor from C1+ to C1-.", 6 GND (power) "Ground. Connect to a low impedance ground. A ground plane will help minimize regulation errors.", 7 CPOUT "Negative Charge Pump Output. This pin requires a 0.1uF storage capacitor to ground. In order to achieve ripple on the output voltage of less than 1mV, the ground connection for the CPOUT capacitor must tie directly to the (See Datasheet)", 8 REG (oc) "This is an open-drain output that pulls low when the output voltage is within 5% of the set value. It will sink 4mA to ground with a 5V supply. The external circuitry must provide a pull-up or REG will not swing high. The (See Datasheet)"